# EAGLE library part KRE-6P (library Conectores KRE)
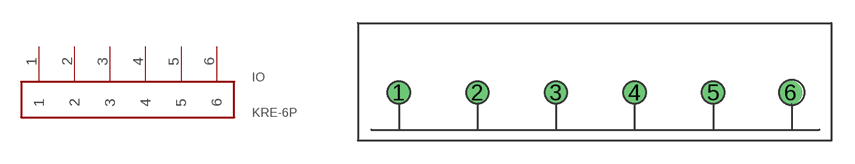
[diagram p1: symbol with the pads of KRE-6P; footprint KRE-6P]

Designator prefix IO

## KRE-6P  [KRE-6P]
1  1
2  2
3  3
4  4
5  5
6  6

## Footprint KRE-6P (pad centres in mm)
Conector KRE 6 Pinos Largura: 7.6MM Comprimento: 30MM Altura: 10MM Distância entre pinos: 5.06MM
drill 1 pad 1.422: 1 -12.7,0; 2 -7.62,0; 3 -2.54,0; 4 2.54,0
drill 1: 5 7.62,0; 6 12.62,0